# Altium footprint library PLD2-60.PcbLib: 1 footprints
Each footprint in its own frame and in the unit in brackets; x right, y up, seen from the top. Pads: shape width x height; smd on the part's side, far side on the other; paste and mask are expansions set on the pad; w line width, h text height; cw(c..) or ccw(c..) is an arc to the next point about the centre after c.
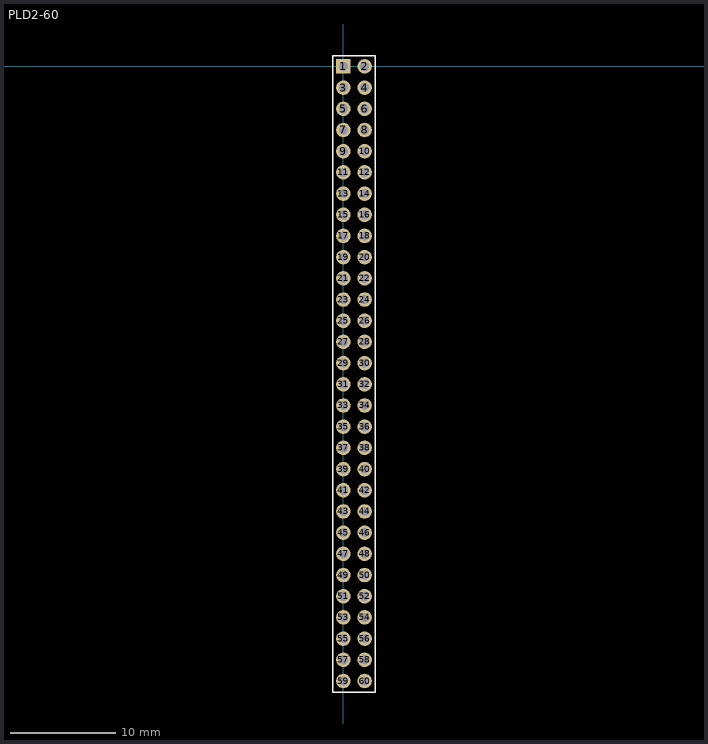
[diagram p0: the footprint, top view; thin cyan lines are the x and y axes]

## PLD2-60 [mil]
pads (60):
  rect 54x54 hole 34: 1(0,0)
  round 54 hole 34: 2(78.74,0) 3(0,-78.74) 4(78.74,-78.74) 5(0,-157.48) 6(78.74,-157.48) 7(0,-236.22) 8(78.74,-236.22) 9(0,-314.96) 10(78.74,-314.96) 11(0,-393.7) 12(78.74,-393.7) 13(0,-472.44) 14(78.74,-472.44) 15(0,-551.18) 16(78.74,-551.18) 17(0,-629.92) 18(78.74,-629.92) 19(0,-708.66) 20(78.74,-708.66) 21(0,-787.4) 22(78.74,-787.4) 23(0,-866.14) 24(78.74,-866.14) 25(0,-944.88) 26(78.74,-944.88) 27(0,-1023.62) 28(78.74,-1023.62) 29(0,-1102.36) 30(78.74,-1102.36) 31(0,-1181.1) 32(78.74,-1181.1) 33(0,-1259.84) 34(78.74,-1259.84) 35(0,-1338.58) 36(78.74,-1338.58) 37(0,-1417.32) 38(78.74,-1417.32) 39(0,-1496.06) 40(78.74,-1496.06) 41(0,-1574.8) 42(78.74,-1574.8) 43(0,-1653.54) 44(78.74,-1653.54) 45(0,-1732.28) 46(78.74,-1732.28) 47(0,-1811.02) 48(78.74,-1811.02) 49(0,-1889.76) 50(78.74,-1889.76) 51(0,-1968.5) 52(78.74,-1968.5) 53(0,-2047.24) 54(78.74,-2047.24) 55(0,-2125.98) 56(78.74,-2125.98) 57(0,-2204.72) 58(78.74,-2204.72) 59(0,-2283.46) 60(78.74,-2283.46)
Top Overlay:
  lines w5.91: -39.37,-2325 118.11,-2325 118.11,39.37 -39.37,39.37 -39.37,-2325
3D body "DS1014-60.step": height 231.68, standoff -15.75, extent -70,-2465.67 150.47,180